# EAGLE library part NE564 (library ic)
NE564: Phase-locked loop (Philips semiconductor) 5V, 50MHz
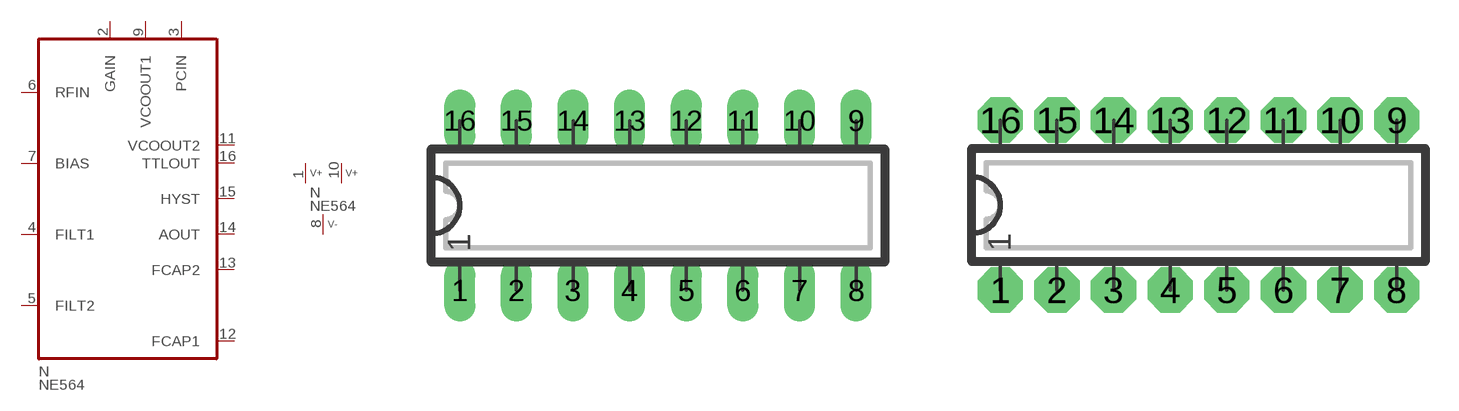
[diagram p108: symbol with the pads of DIP16L; footprints DIP16L, DIP16N]

Designator prefix N; gates P=V2+-  =NE564

## NE564  [DIP16L]
1  P:V+1  pwr
2   :GAIN  in
3   :PCIN  in
4   :FILT1  pas
5   :FILT2  pas
6   :RFIN  in
7   :BIAS  in
8  P:V-  pwr
9   :VCOOUT1  out
10  P:V+2  pwr
11   :VCOOUT2
12   :FCAP1  pas
13   :FCAP2  pas
14   :AOUT  out
15   :HYST
16   :TTLOUT  out

## NE564L  [DIP16L]
Pads as for DIP16L

## NE564N  [DIP16N]
Pads as for DIP16L

## NE564R  [DIP16R]
Pads as for DIP16L

## Footprint DIP16L (pad centres in mm)
DIP-16, long pads Standard IC package, 16 pins
drill 0.813 pad 1.397 long: 1 -8.89,-3.81; 2 -6.35,-3.81; 3 -3.81,-3.81; 4 -1.27,-3.81; 5 1.27,-3.81; 6 3.81,-3.81; 7 6.35,-3.81; 8 8.89,-3.81; 9 8.89,3.81; 10 6.35,3.81; 11 3.81,3.81; 12 1.27,3.81; 13 -1.27,3.81; 14 -3.81,3.81; 15 -6.35,3.81; 16 -8.89,3.81

## Footprint DIP16N (pad centres in mm)
DIP-16 Standard IC package, 16 pins
drill 0.813 pad 2.032 octagon: 1 -8.89,-3.81; 2 -6.35,-3.81; 3 -3.81,-3.81; 4 -1.27,-3.81; 5 1.27,-3.81; 6 3.81,-3.81; 7 6.35,-3.81; 8 8.89,-3.81; 9 8.89,3.81; 10 6.35,3.81; 11 3.81,3.81; 12 1.27,3.81; 13 -1.27,3.81; 14 -3.81,3.81; 15 -6.35,3.81; 16 -8.89,3.81

## Footprint DIP16R (pad centres in mm)
DIP-16, reduced pads Standard IC package, 16 pins
drill 0.813 pad 1.397 square: 1 -8.89,-3.81; 2 -6.35,-3.81; 3 -3.81,-3.81; 4 -1.27,-3.81; 5 1.27,-3.81; 6 3.81,-3.81; 7 6.35,-3.81; 8 8.89,-3.81; 9 8.89,3.81; 10 6.35,3.81; 11 3.81,3.81; 12 1.27,3.81; 13 -1.27,3.81; 14 -3.81,3.81; 15 -6.35,3.81; 16 -8.89,3.81